# Altium schematic symbol library D_Procesadores.SchLib: 1 symbol
Pins are listed as number, name and electrical type; pins without a type are passive.

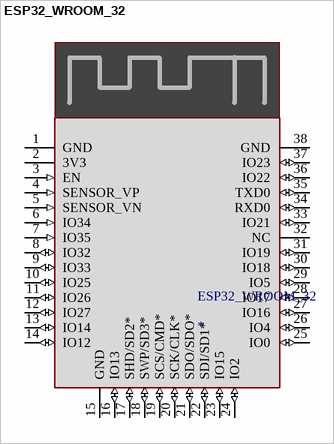
[diagram p0: symbol ESP32_WROOM_32]

## ESP32_WROOM_32
designator ESP32_WROOM_32
SoC Esp32; MANUFACTURER: *; MANUFACTURER CODE: *; PROVIDER: *; PROVIDER CODE: *; ComponentLink1Description: PROVIDER LINK; ComponentLink1URL: *; ComponentLink2Description: DATASHEET; ComponentLink2URL: https://www.espressif.com/sites/default/files/documentation/esp32-wroom-32_datasheet_en.pdf
footprint PCBComponent_1
pins: 1 GND (power), 2 3V3 (power), 3 EN (in), 4 SENSOR_VP (in), 5 SENSOR_VN (in), 6 IO34 (in), 7 IO35 (in), 8 IO32 (io), 9 IO33 (io), 10 IO25 (io), 11 IO26 (io), 12 IO27 (io), 13 IO14 (io), 14 IO12 (io), 15 GND (power), 16 IO13 (io), 17 SHD/SD2* (io), 18 SWP/SD3* (io), 19 SCS/CMD* (io), 20 SCK/CLK* (io), 21 SDO/SDO* (io), 22 SDI/SD1* (io), 23 IO15 (io), 24 IO2 (io), 25 IO0 (io), 26 IO4 (io), 27 IO16 (io), 28 IO17 (io), 29 IO5 (io), 30 IO18 (io), 31 IO19 (io), 32 NC, 33 IO21 (io), 34 RXD0 (io), 35 TXD0 (io), 36 IO22 (io), 37 IO23 (io), 38 GND (power)